# Altium schematic symbol library Surface Mount Push Button Switch.SchLib: 1 symbol
Pins are listed as number, name and electrical type; pins without a type are passive.

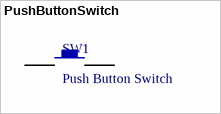
[diagram p0: symbol PushButtonSwitch]

## PushButtonSwitch
designator SW1, comment Push Button Switch
footprint Push Button Switch
pins: 1, 2